# EAGLE library part FPC50 (library we-con)
FPC/ZIF Connector FCI 62684-502100AHLF -> 50 Pins 0.5mm top contact FCI 62684-501100AHLF -> 50 Pins 0.5mm bottom contact
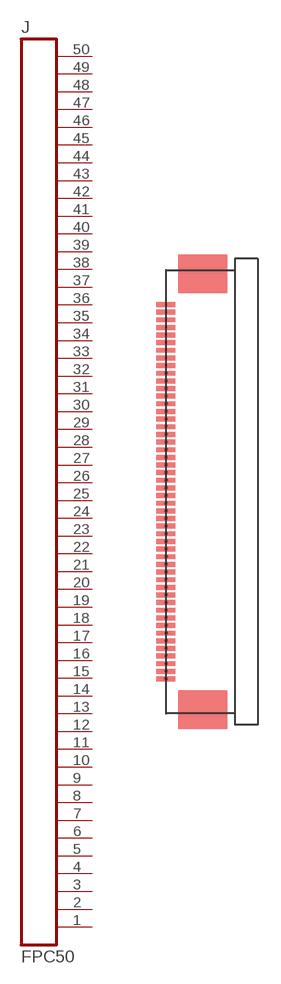
[diagram p24: symbol with the pads of FPC50-0.5; footprint FPC50-0.5]

Designator prefix J

## FPC50 (DIGIKEY_BOT: 62684-501100AHLF-ND; DIGIKEY_TOP: 62684-502100AHLF-ND)  [FPC50-0.5]
1  1  pas
2  2  pas
3  3  pas
4  4  pas
5  5  pas
6  6  pas
7  7  pas
8  8  pas
9  9  pas
10  10  pas
11  11  pas
12  12  pas
13  13  pas
14  14  pas
15  15  pas
16  16  pas
17  17  pas
18  18  pas
19  19  pas
20  20  pas
21  21  pas
22  22  pas
23  23  pas
24  24  pas
25  25  pas
26  26  pas
27  27  pas
28  28  pas
29  29  pas
30  30  pas
31  31  pas
32  32  pas
33  33  pas
34  34  pas
35  35  pas
36  36  pas
37  37  pas
38  38  pas
39  39  pas
40  40  pas
41  41  pas
42  42  pas
43  43  pas
44  44  pas
45  45  pas
46  46  pas
47  47  pas
48  48  pas
49  49  pas
50  50  pas

## Footprint FPC50-0.5 (pad centres in mm)
50 Pins 0.5mm FCI 62684-502100AHLF -> top contact FCI 62684-501100AHLF -> bottom contact
smd 1.27 x 0.279: 1 0,12.25; 2 0,11.75; 3 0,11.25; 4 0,10.75; 5 0,10.25; 6 0,9.75; 7 0,9.25; 8 0,8.75; 9 0,8.25; 10 0,7.75; 11 0,7.25; 12 0,6.75; 13 0,6.25; 14 0,5.75; 15 0,5.25; 16 0,4.75; 17 0,4.25; 18 0,3.75; 19 0,3.25; 20 0,2.75; 21 0,2.25; 22 0,1.75; 23 0,1.25; 24 0,0.75; 25 0,0.25; 26 0,-0.25; 27 0,-0.75; 28 0,-1.25; 29 0,-1.75; 30 0,-2.25; 31 0,-2.75; 32 0,-3.25; 33 0,-3.75; 34 0,-4.25; 35 0,-4.75; 36 0,-5.25; 37 0,-5.75; 38 0,-6.25; 39 0,-6.75; 40 0,-7.25; 41 0,-7.75; 42 0,-8.25; 43 0,-8.75; 44 0,-9.25; 45 0,-9.75; 46 0,-10.25; 47 0,-10.75; 48 0,-11.25; 49 0,-11.75; 50 0,-12.25